# Altium integrated library lib_onsemi.IntLib: 9 symbols
Pins are listed as number, name and electrical type; pins without a type are passive.

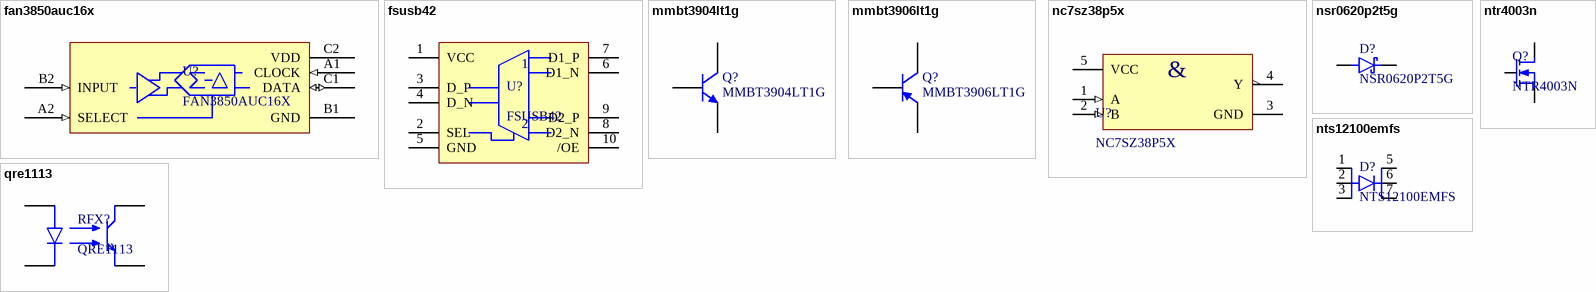
[diagram p0: symbols fan3850auc16x to qre1113]

## fan3850auc16x
designator U?, comment FAN3850AUC16X
Microphone Pre-Amplifier with Digital Output; ComponentLink1Description: datasheet; ComponentLink1URL: https://www.mouser.se/datasheet/2/308/FAN3850A-1305296.pdf; #digikey: *; #mouser: *
footprint BGA6C48P2X3_86X126X30 (BGA, 6-Leads, Body 0,86x1,26mmx0,30mm, Pitch 0,49mm)
pins: A1 CLOCK (in), A2 SELECT (in), B1 GND (power), B2 INPUT (in), C1 DATA (io), C2 VDD (power)

## fsusb42
designator U?, comment FSUSB42
USB Multiplexer; #digikey: *; #mouser: *
footprint TSSOP50P490X95-10N (TSSOP, 10-Leads, Body 3.00x3.00mm, Pitch 0.50mm, IPC Medium Density)
pins: 1 VCC, 2 SEL, 3 D_P, 4 D_N, 5 GND, 6 D1_N, 7 D1_P, 8 D2_N, 9 D2_P, 10 /OE

## mmbt3904lt1g
designator Q?, comment MMBT3904LT1G
NPN General Purpose Transistor; ComponentLink1Description: datasheet; ComponentLink1URL: https://www.onsemi.com/pub/Collateral/MMBT3904LT1-D.PDF
footprint SOT95P237X110-3N (SOT23, 3-Leads, Body 2.90x2.37mm, Pitch 0.95mm, IPC Medium Density)
pins: 1 B, 2 E, 3 C

## mmbt3906lt1g
designator Q?, comment MMBT3906LT1G
PNP General Purpose Transistor; ComponentLink1Description: datasheet; ComponentLink1URL: https://www.onsemi.com/pub/Collateral/MMBT3904LT1-D.PDF
footprint SOT95P237X110-3N (SOT23, 3-Leads, Body 2.90x2.37mm, Pitch 0.95mm, IPC Medium Density)
pins: 1 B, 2 E, 3 C

## nc7sz38p5x
designator U?, comment NC7SZ38P5X
TinyLogic UHS 2-Input / NAND Gate, Open Drain / Output; ComponentLink1Description: Datasheet; ComponentLink1URL: https://www.onsemi.com/pdf/datasheet/nc7sz38-d.pdf
footprint SOT65P210X110-5N_NC7SZ38P5X (SOT23, 5-Leads, Body 2.00x2.10mm, Pitch 0.65mm, IPC Medium Density)
pins: 1 A (in), 2 B (in), 3 GND (power), 4 Y (oc), 5 VCC (power)
text: &

## nsr0620p2t5g
designator D?, comment NSR0620P2T5G
500 mA, 20 V, Schottky Barrier Diode; ComponentLink1Description: Datasheet; ComponentLink1URL: https://www.onsemi.com/pdf/datasheet/nsr0620p2-d.pdf
footprint SODFL100X40-2N_NSR0620P2T5G (SODFL, 2-Leads, Body 0.60x1.00mm, IPC Medium Density)
pins: 1 C, 2 A

## ntr4003n
designator Q?, comment NTR4003N
N-channel Mosfet; #digikey: *; #mouser: *
footprint SOT95P235X100-3N (SOT23, 3-Leads, Body 2.90x2.35mm, Pitch 0.95mm, IPC Medium Density)
pins: D, G, S

## nts12100emfs
designator D?, comment NTS12100EMFS
Very Low LeakageTrench-based SchottkyRectifier; ComponentLink1Description: datasheet; ComponentLink1URL: https://www.onsemi.com/pub/Collateral/NTS12100EMFS-D.PDF
footprint SON127P620X110_HS-9N_NTS12100 (SON, 8-Leads, Body 5.15x6.15mm, Pitch 1.27mm, Thermal Pad 3.98x1.50mm, IPC Medium Density)
pins: 1, 2, 3, 5, 6, 7

## qre1113
designator RFX?, comment QRE1113
Miniature Reflective Object Sensor; #digikey: *; #mouser: *
footprint SOP180P460X170-4N (SOP, 4-Leads, Body 3,40x2,70mm, Pitch 1,80mm, IPC Medium Density)
pins: 1 A, 2 C, 3 C, 4 E